# Altium schematic symbol library SCH - MCU - NUVOTON - NUVOTON NANO112VC2AN.SchLib: 1 symbol
Pins are listed as number, name and electrical type; pins without a type are passive.

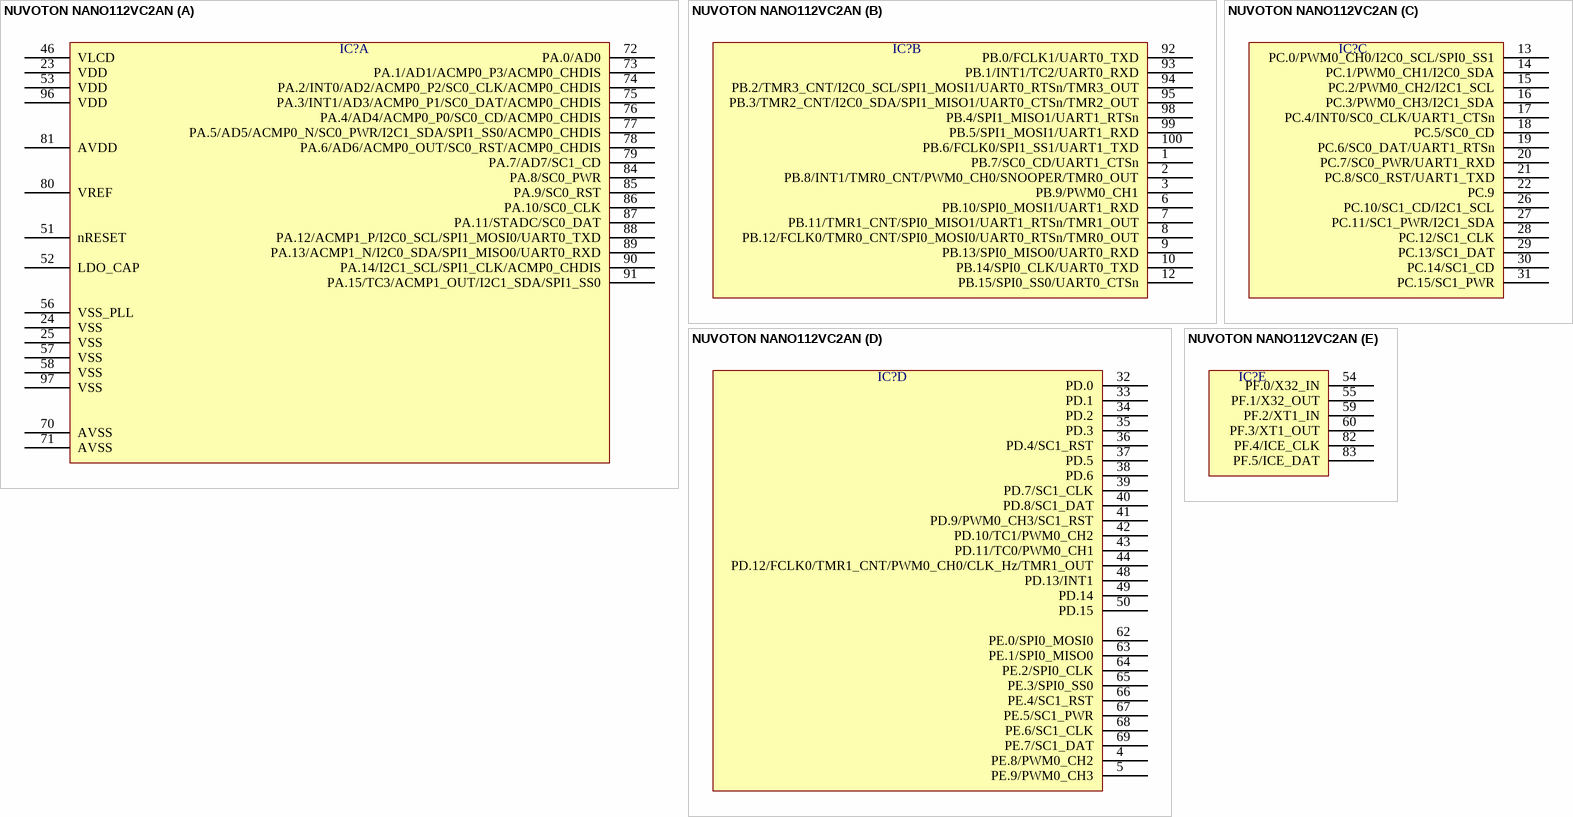
[diagram p0: symbol NUVOTON NANO112VC2AN]

## NUVOTON NANO112VC2AN
designator IC?  (value not drawn)
part A pins: 23 VDD, 24 VSS, 25 VSS, 46 VLCD, 51 nRESET, 52 LDO_CAP, 53 VDD, 56 VSS_PLL, 57 VSS, 58 VSS, 70 AVSS, 71 AVSS, 72 PA.0/AD0, 73 PA.1/AD1/ACMP0_P3/ACMP0_CHDIS, 74 PA.2/INT0/AD2/ACMP0_P2/SC0_CLK/ACMP0_CHDIS, 75 PA.3/INT1/AD3/ACMP0_P1/SC0_DAT/ACMP0_CHDIS, 76 PA.4/AD4/ACMP0_P0/SC0_CD/ACMP0_CHDIS, 77 PA.5/AD5/ACMP0_N/SC0_PWR/I2C1_SDA/SPI1_SS0/ACMP0_CHDIS, 78 PA.6/AD6/ACMP0_OUT/SC0_RST/ACMP0_CHDIS, 79 PA.7/AD7/SC1_CD, 80 VREF, 81 AVDD, 84 PA.8/SC0_PWR, 85 PA.9/SC0_RST, 86 PA.10/SC0_CLK, 87 PA.11/STADC/SC0_DAT, 88 PA.12/ACMP1_P/I2C0_SCL/SPI1_MOSI0/UART0_TXD, 89 PA.13/ACMP1_N/I2C0_SDA/SPI1_MISO0/UART0_RXD, 90 PA.14/I2C1_SCL/SPI1_CLK/ACMP0_CHDIS, 91 PA.15/TC3/ACMP1_OUT/I2C1_SDA/SPI1_SS0, 96 VDD, 97 VSS
part B pins: 1 PB.7/SC0_CD/UART1_CTSn, 2 PB.8/INT1/TMR0_CNT/PWM0_CH0/SNOOPER/TMR0_OUT, 3 PB.9/PWM0_CH1, 6 PB.10/SPI0_MOSI1/UART1_RXD, 7 PB.11/TMR1_CNT/SPI0_MISO1/UART1_RTSn/TMR1_OUT, 8 PB.12/FCLK0/TMR0_CNT/SPI0_MOSI0/UART0_RTSn/TMR0_OUT, 9 PB.13/SPI0_MISO0/UART0_RXD, 10 PB.14/SPI0_CLK/UART0_TXD, 12 PB.15/SPI0_SS0/UART0_CTSn, 92 PB.0/FCLK1/UART0_TXD, 93 PB.1/INT1/TC2/UART0_RXD, 94 PB.2/TMR3_CNT/I2C0_SCL/SPI1_MOSI1/UART0_RTSn/TMR3_OUT, 95 PB.3/TMR2_CNT/I2C0_SDA/SPI1_MISO1/UART0_CTSn/TMR2_OUT, 98 PB.4/SPI1_MISO1/UART1_RTSn, 99 PB.5/SPI1_MOSI1/UART1_RXD, 100 PB.6/FCLK0/SPI1_SS1/UART1_TXD
part C pins: 13 PC.0/PWM0_CH0/I2C0_SCL/SPI0_SS1, 14 PC.1/PWM0_CH1/I2C0_SDA, 15 PC.2/PWM0_CH2/I2C1_SCL, 16 PC.3/PWM0_CH3/I2C1_SDA, 17 PC.4/INT0/SC0_CLK/UART1_CTSn, 18 PC.5/SC0_CD, 19 PC.6/SC0_DAT/UART1_RTSn, 20 PC.7/SC0_PWR/UART1_RXD, 21 PC.8/SC0_RST/UART1_TXD, 22 PC.9, 26 PC.10/SC1_CD/I2C1_SCL, 27 PC.11/SC1_PWR/I2C1_SDA, 28 PC.12/SC1_CLK, 29 PC.13/SC1_DAT, 30 PC.14/SC1_CD, 31 PC.15/SC1_PWR
part D pins: 4 PE.8/PWM0_CH2, 5 PE.9/PWM0_CH3, 32 PD.0, 33 PD.1, 34 PD.2, 35 PD.3, 36 PD.4/SC1_RST, 37 PD.5, 38 PD.6, 39 PD.7/SC1_CLK, 40 PD.8/SC1_DAT, 41 PD.9/PWM0_CH3/SC1_RST, 42 PD.10/TC1/PWM0_CH2, 43 PD.11/TC0/PWM0_CH1, 44 PD.12/FCLK0/TMR1_CNT/PWM0_CH0/CLK_Hz/TMR1_OUT, 48 PD.13/INT1, 49 PD.14, 50 PD.15, 62 PE.0/SPI0_MOSI0, 63 PE.1/SPI0_MISO0, 64 PE.2/SPI0_CLK, 65 PE.3/SPI0_SS0, 66 PE.4/SC1_RST, 67 PE.5/SC1_PWR, 68 PE.6/SC1_CLK, 69 PE.7/SC1_DAT
part E pins: 54 PF.0/X32_IN, 55 PF.1/X32_OUT, 59 PF.2/XT1_IN, 60 PF.3/XT1_OUT, 82 PF.4/ICE_CLK, 83 PF.5/ICE_DAT